# EAGLE library part D-SEMTECH-RCLAMP0504S (library CHIP_HDMI)
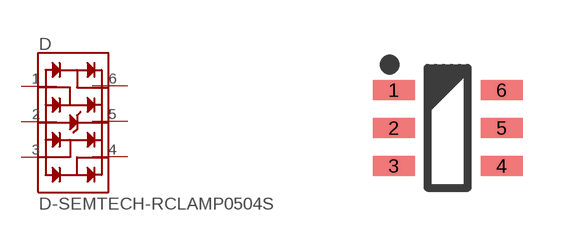
[diagram p1: symbol with the pads of T_SOT95P285X90-6N; footprint T_SOT95P285X90-6N]

Designator prefix D

## D-SEMTECH-RCLAMP0504S  [T_SOT95P285X90-6N]
1  1  pas
2  2  pwr
3  3  pas
4  4  pas
5  5  pwr
6  6  pas

## Footprint T_SOT95P285X90-6N (pad centres in mm)
T_SOT95P285X90-6N
smd 1.05 x 0.5: 1 0,0; 2 0,-0.95; 3 0,-1.9; 4 2.7,-1.9; 5 2.7,-0.95; 6 2.7,0